# Altium schematic symbol library mylib.SchLib: 3 symbols
Pins are listed as number, name and electrical type; pins without a type are passive.

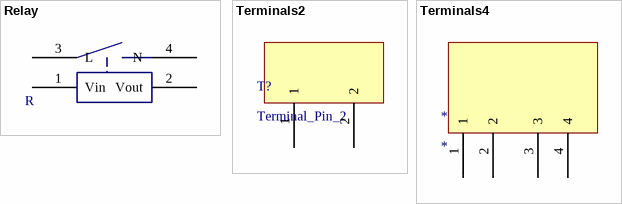
[diagram p0: symbols Relay to Terminals4]

## Relay
designator ?, comment R
footprint PCBComponent_1 - duplicate; pin to pad 2>3 3>2
pins: 1 Vin, 2 Vout, 3 L, 4 N

## Terminals2
designator T?, comment Terminal_Pin_2
footprint PCBComponent_1 - duplicate1
pins: 1, 2

## Terminals4
designator *
footprint PCBComponent_1 - duplicate2
pins: 1, 2, 3, 4